# EAGLE library part 692622030100 (library 632723100011_Eagle_WR-USB_rev19b)
WR-COMMICRO USB 3.0 HORIZONTAL SMT TYPE B=>Code :Con_I-O_COM_MicroUSB_692622030100 <http://katalog.we-online.de/media/images/eican/Con_I-O_COM_MicroUSB_692622030100_pf2.jpg> Details see: http://katalog.we-online.de/en/em/COM_MICRO_3_0_SMT_TYPE_B_HORIZONTAL/692622030100 Created 2014-07-09, Karrer Zheng 2014 (C) Würth Elektronik
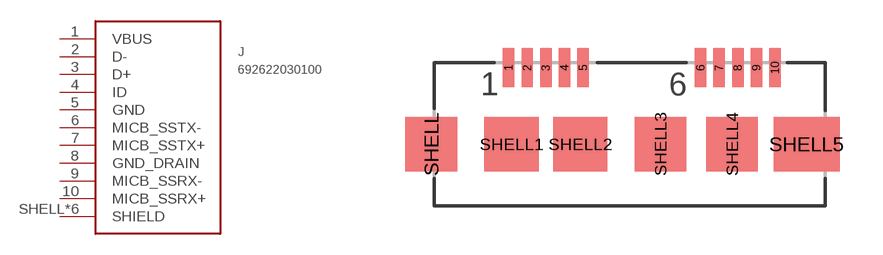
[diagram p85: symbol with the pads of 692622030100; footprint 692622030100]

Designator prefix J

## 692622030100  [692622030100]
1  VBUS
2  D-
3  D+
4  ID
5  GND
6  MICB_SSTX-
7  MICB_SSTX+
8  GND_DRAIN
9  MICB_SSRX-
10  MICB_SSRX+
SHELL  SHIELD
SHELL1  SHIELD
SHELL2  SHIELD
SHELL3  SHIELD
SHELL4  SHIELD
SHELL5  SHIELD

## Footprint 692622030100 (pad centres in mm)
WR-COM MICRO USB 3.0 HORIZONTAL SMT TYPE B
smd 0.4 x 1.35: 1 -1.3,2.675; 2 -0.65,2.675; 3 0,2.675; 4 0.65,2.675; 5 1.3,2.675; 6 5.4,2.675; 7 6.05,2.675; 8 6.7,2.675; 9 7.35,2.675; 10 8,2.675
smd 1.8 x 1.9: SHELL -4,0; SHELL3 4,0; SHELL4 6.5,0
smd 1.9 x 1.9: SHELL1 -1.2,0; SHELL2 1.2,0
smd 2.3 x 1.9: SHELL5 9.1,0